# Altium schematic symbol library Components - 08.09.24 - 22.50.SchLib: 1 symbol
Pins are listed as number, name and electrical type; pins without a type are passive.

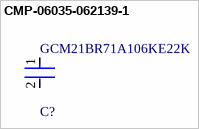
[diagram p0: symbol CMP-06035-062139-1]

## CMP-06035-062139-1
designator C?, comment GCM21BR71A106KE22K
Ceramic Capacitor for Automotive 10uF ±10% 10VDC X7R 0805 Embossed T/R; Voltage Rating: 10V; Mount: Surface Mount; Max Operating Temperature: 125°C; Tolerance: 10%; Voltage Rating (DC): 10V; Dielectric: X7R; RoHS Compliant: Yes; Package Quantity: 10000; Min Operating Temperature: -55°C; Case/Package: 0805; Case Code (Imperial): 0805; Thickness: 0.055inch; Weight: 0.000335oz; Length: 0.079inch; Ratings: AEC-Q200; Case Code (Metric): 2012; Termination: SMD/SMT; Width: 1.25mm; Height: 1.25mm; Packaging: Tape and Reel; Capacitance: 10uF
footprint FP-GCM21B-0_15-IPC_A
footprint FP-GCM21B-0_15-MFG
footprint FP-GCM21B-0_15-IPC_B
footprint FP-GCM21B-0_15-IPC_C
pins: 1, 2